# EAGLE library part GO_CONNECTOR (library Nwazet.Go)
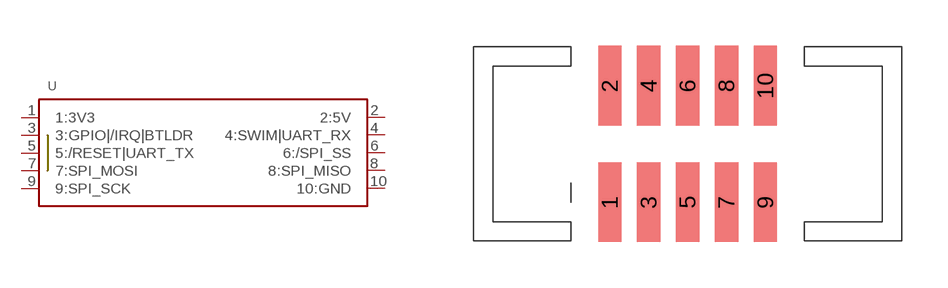
[diagram p6: symbol with the pads of FCI-1.27X1.27MM_10PIN_HEADER_SHROUDED_SMT; footprint FCI-1.27X1.27MM_10PIN_HEADER_SHROUDED_SMT]

Designator prefix -

## GO_CONNECTOR  [FCI-1.27X1.27MM_10PIN_HEADER_SHROUDED_SMT]
1  1:3V3  pwr
2  2:5V  pwr
3  3:GPIO|/IRQ|BTLDR
4  4:SWIM|UART_RX
5  5:/RESET|UART_TX
6  6:/SPI_SS
7  7:SPI_MOSI
8  8:SPI_MISO
9  9:SPI_SCK
10  10:GND  pas

## Footprint FCI-1.27X1.27MM_10PIN_HEADER_SHROUDED_SMT (pad centres in mm)
smd 0.76 x 2.6: 1 -2.54,-1.905; 2 -2.54,1.905; 3 -1.27,-1.905; 4 -1.27,1.905; 5 0,-1.905; 6 0,1.905; 7 1.27,-1.905; 8 1.27,1.905; 9 2.54,-1.905; 10 2.54,1.905